# EAGLE library part PCA9634 (library vibhud)
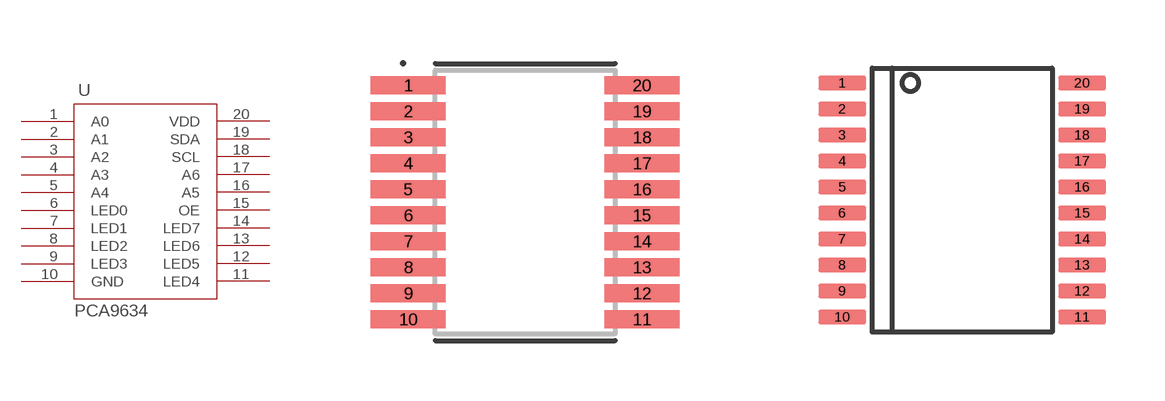
[diagram p22: symbol with the pads of SOP65P640X110-20; footprints SOP65P640X110-20, TSSOP20]

Designator prefix -

## PCA963420-TSSOP  [SOP65P640X110-20]
1  A0
2  A1
3  A2
4  A3
5  A4
6  LED0
7  LED1
8  LED2
9  LED3
10  GND
11  LED4
12  LED5
13  LED6
14  LED7
15  OE
16  A5
17  A6
18  SCL
19  SDA
20  VDD

## PCA9634TSSOP20  [TSSOP20]
Pads as for SOP65P640X110-20

## PCA963420-SO  [SOIC127P1032X265-20]
Pads as for SOP65P640X110-20

## PCA9634HVQFN20  [QFN65P500X500X100-20]
1  A2
2  A3
3  A4
4  LED0
5  LED1
6  LED2
7  LED3
8  GND
9  LED4
10  LED5
11  LED6
12  LED7
13  OE
14  A5
15  A6
16  SCL
17  SDA
18  VDD
19  A0
20  A1

## Footprint SOP65P640X110-20 (pad centres in mm)
20-SOP, 0.65 mm pitch, 6.4 mm span, 6.5 X 4.4 X 1.1 mm body 20-pin SOP package with 0.65 mm pitch, 6.4 mm span with body size 6.5 X 4.4 X 1.1 mm
smd 1.872 x 0.447: 1 -2.922,2.925; 2 -2.922,2.275; 3 -2.922,1.625; 4 -2.922,0.975; 5 -2.922,0.325; 6 -2.922,-0.325; 7 -2.922,-0.975; 8 -2.922,-1.625; 9 -2.922,-2.275; 10 -2.922,-2.925; 11 2.922,-2.925; 12 2.922,-2.275; 13 2.922,-1.625; 14 2.922,-0.975; 15 2.922,-0.325; 16 2.922,0.325; 17 2.922,0.975; 18 2.922,1.625; 19 2.922,2.275; 20 2.922,2.925

## Footprint TSSOP20 (pad centres in mm)
smd 1.2 x 0.35: 1 -3,2.925; 2 -3,2.275; 3 -3,1.625; 4 -3,0.975; 5 -3,0.325; 6 -3,-0.325; 7 -3,-0.975; 8 -3,-1.625; 9 -3,-2.275; 10 -3,-2.925; 11 3,-2.925; 12 3,-2.275; 13 3,-1.625; 14 3,-0.975; 15 3,-0.325; 16 3,0.325; 17 3,0.975; 18 3,1.625; 19 3,2.275; 20 3,2.925

## Footprint SOIC127P1032X265-20 (pad centres in mm)
20-SOIC, 1.27 mm pitch, 10.325 mm span, 12.8 X 7.5 X 2.65 mm body 20-pin SOIC package with 1.27 mm pitch, 10.325 mm span with body size 12.8 X 7.5 X 2.65 mm
smd 1.916 x 0.592: 1 -4.722,5.715; 2 -4.722,4.445; 3 -4.722,3.175; 4 -4.722,1.905; 5 -4.722,0.635; 6 -4.722,-0.635; 7 -4.722,-1.905; 8 -4.722,-3.175; 9 -4.722,-4.445; 10 -4.722,-5.715; 11 4.722,-5.715; 12 4.722,-4.445; 13 4.722,-3.175; 14 4.722,-1.905; 15 4.722,-0.635; 16 4.722,0.635; 17 4.722,1.905; 18 4.722,3.175; 19 4.722,4.445; 20 4.722,5.715

## Footprint QFN65P500X500X100-20 (pad centres in mm)
20-QFN, 0.65 mm pitch, 5 X 5 X 1 mm body 20-pin QFN package with 0.65 mm pitch with body size 5 X 5 X 1 mm
smd 1.099 x 0.337: 1 -2.315,1.3; 2 -2.315,0.65; 3 -2.315,0; 4 -2.315,-0.65; 5 -2.315,-1.3; 11 2.315,-1.3; 12 2.315,-0.65; 13 2.315,0; 14 2.315,0.65; 15 2.315,1.3
smd 0.337 x 1.099: 6 -1.3,-2.315; 7 -0.65,-2.315; 8 0,-2.315; 9 0.65,-2.315; 10 1.3,-2.315; 16 1.3,2.315; 17 0.65,2.315; 18 0,2.315; 19 -0.65,2.315; 20 -1.3,2.315